# EAGLE library part QFP144-0.5 (library ic-package)
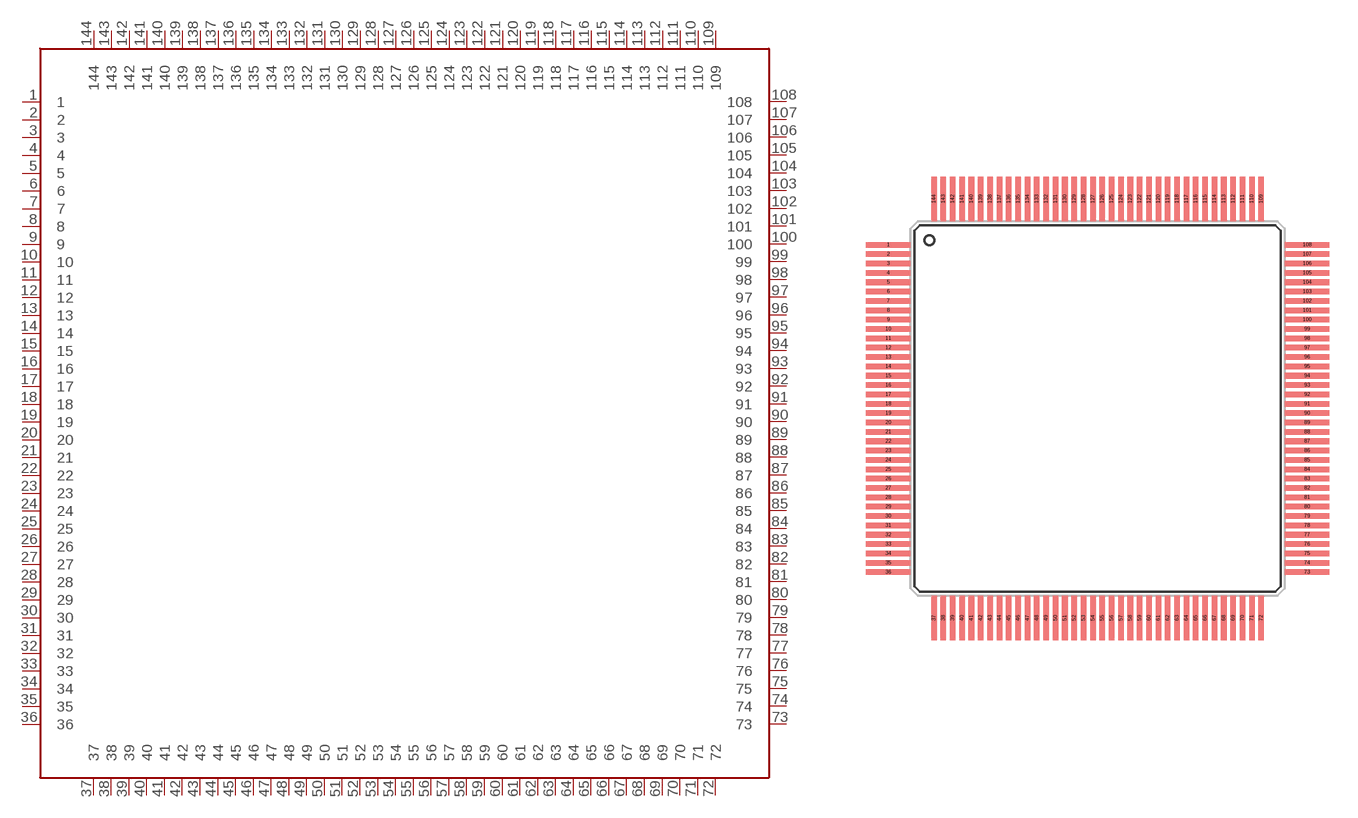
[diagram p3: symbol with the pads of QFP144-0.5; footprint QFP144-0.5]

Designator prefix U

## QFP144-0.5  [QFP144-0.5]
1  1  pas
2  2  pas
3  3  pas
4  4  pas
5  5  pas
6  6  pas
7  7  pas
8  8  pas
9  9  pas
10  10  pas
11  11  pas
12  12  pas
13  13  pas
14  14  pas
15  15  pas
16  16  pas
17  17  pas
18  18  pas
19  19  pas
20  20  pas
21  21  pas
22  22  pas
23  23  pas
24  24  pas
25  25  pas
26  26  pas
27  27  pas
28  28  pas
29  29  pas
30  30  pas
31  31  pas
32  32  pas
33  33  pas
34  34  pas
35  35  pas
36  36  pas
37  37  pas
38  38  pas
39  39  pas
40  40  pas
41  41  pas
42  42  pas
43  43  pas
44  44  pas
45  45  pas
46  46  pas
47  47  pas
48  48  pas
49  49  pas
50  50  pas
51  51  pas
52  52  pas
53  53  pas
54  54  pas
55  55  pas
56  56  pas
57  57  pas
58  58  pas
59  59  pas
60  60  pas
61  61  pas
62  62  pas
63  63  pas
64  64  pas
65  65  pas
66  66  pas
67  67  pas
68  68  pas
69  69  pas
70  70  pas
71  71  pas
72  72  pas
73  73  pas
74  74  pas
75  75  pas
76  76  pas
77  77  pas
78  78  pas
79  79  pas
80  80  pas
81  81  pas
82  82  pas
83  83  pas
84  84  pas
85  85  pas
86  86  pas
87  87  pas
88  88  pas
89  89  pas
90  90  pas
91  91  pas
92  92  pas
93  93  pas
94  94  pas
95  95  pas
96  96  pas
97  97  pas
98  98  pas
99  99  pas
100  100  pas
101  101  pas
102  102  pas
103  103  pas
104  104  pas
105  105  pas
106  106  pas
107  107  pas
108  108  pas
109  109  pas
110  110  pas
111  111  pas
112  112  pas
113  113  pas
114  114  pas
115  115  pas
116  116  pas
117  117  pas
118  118  pas
119  119  pas
120  120  pas
121  121  pas
122  122  pas
123  123  pas
124  124  pas
125  125  pas
126  126  pas
127  127  pas
128  128  pas
129  129  pas
130  130  pas
131  131  pas
132  132  pas
133  133  pas
134  134  pas
135  135  pas
136  136  pas
137  137  pas
138  138  pas
139  139  pas
140  140  pas
141  141  pas
142  142  pas
143  143  pas
144  144  pas

## Footprint QFP144-0.5 (pad centres in mm)
smd 2.4 x 0.297: 1 -11.2,8.75; 2 -11.2,8.25; 3 -11.2,7.75; 4 -11.2,7.25; 5 -11.2,6.75; 6 -11.2,6.25; 7 -11.2,5.75; 8 -11.2,5.25; 9 -11.2,4.75; 10 -11.2,4.25; 11 -11.2,3.75; 12 -11.2,3.25; 13 -11.2,2.75; 14 -11.2,2.25; 15 -11.2,1.75; 16 -11.2,1.25; 17 -11.2,0.75; 18 -11.2,0.25; 19 -11.2,-0.25; 20 -11.2,-0.75; 21 -11.2,-1.25; 22 -11.2,-1.75; 23 -11.2,-2.25; 24 -11.2,-2.75; 25 -11.2,-3.25; 26 -11.2,-3.75; 27 -11.2,-4.25; 28 -11.2,-4.75; 29 -11.2,-5.25; 30 -11.2,-5.75; 31 -11.2,-6.25; 32 -11.2,-6.75; 33 -11.2,-7.25; 34 -11.2,-7.75; 35 -11.2,-8.25; 36 -11.2,-8.75; 73 11.2,-8.75; 74 11.2,-8.25; 75 11.2,-7.75; 76 11.2,-7.25; 77 11.2,-6.75; 78 11.2,-6.25; 79 11.2,-5.75; 80 11.2,-5.25; 81 11.2,-4.75; 82 11.2,-4.25; 83 11.2,-3.75; 84 11.2,-3.25; 85 11.2,-2.75; 86 11.2,-2.25; 87 11.2,-1.75; 88 11.2,-1.25; 89 11.2,-0.75; 90 11.2,-0.25; 91 11.2,0.25; 92 11.2,0.75; 93 11.2,1.25; 94 11.2,1.75; 95 11.2,2.25; 96 11.2,2.75; 97 11.2,3.25; 98 11.2,3.75; 99 11.2,4.25; 100 11.2,4.75; 101 11.2,5.25; 102 11.2,5.75; 103 11.2,6.25; 104 11.2,6.75; 105 11.2,7.25; 106 11.2,7.75; 107 11.2,8.25; 108 11.2,8.75
smd 0.297 x 2.4: 37 -8.75,-11.2; 38 -8.25,-11.2; 39 -7.75,-11.2; 40 -7.25,-11.2; 41 -6.75,-11.2; 42 -6.25,-11.2; 43 -5.75,-11.2; 44 -5.25,-11.2; 45 -4.75,-11.2; 46 -4.25,-11.2; 47 -3.75,-11.2; 48 -3.25,-11.2; 49 -2.75,-11.2; 50 -2.25,-11.2; 51 -1.75,-11.2; 52 -1.25,-11.2; 53 -0.75,-11.2; 54 -0.25,-11.2; 55 0.25,-11.2; 56 0.75,-11.2; 57 1.25,-11.2; 58 1.75,-11.2; 59 2.25,-11.2; 60 2.75,-11.2; 61 3.25,-11.2; 62 3.75,-11.2; 63 4.25,-11.2; 64 4.75,-11.2; 65 5.25,-11.2; 66 5.75,-11.2; 67 6.25,-11.2; 68 6.75,-11.2; 69 7.25,-11.2; 70 7.75,-11.2; 71 8.25,-11.2; 72 8.75,-11.2; 109 8.75,11.2; 110 8.25,11.2; 111 7.75,11.2; 112 7.25,11.2; 113 6.75,11.2; 114 6.25,11.2; 115 5.75,11.2; 116 5.25,11.2; 117 4.75,11.2; 118 4.25,11.2; 119 3.75,11.2; 120 3.25,11.2; 121 2.75,11.2; 122 2.25,11.2; 123 1.75,11.2; 124 1.25,11.2; 125 0.75,11.2; 126 0.25,11.2; 127 -0.25,11.2; 128 -0.75,11.2; 129 -1.25,11.2; 130 -1.75,11.2; 131 -2.25,11.2; 132 -2.75,11.2; 133 -3.25,11.2; 134 -3.75,11.2; 135 -4.25,11.2; 136 -4.75,11.2; 137 -5.25,11.2; 138 -5.75,11.2; 139 -6.25,11.2; 140 -6.75,11.2; 141 -7.25,11.2; 142 -7.75,11.2; 143 -8.25,11.2; 144 -8.75,11.2